# Altium schematic symbol library Q's常用控制芯片.SchLib: 3 symbols
Pins are listed as number, name and electrical type; pins without a type are passive.

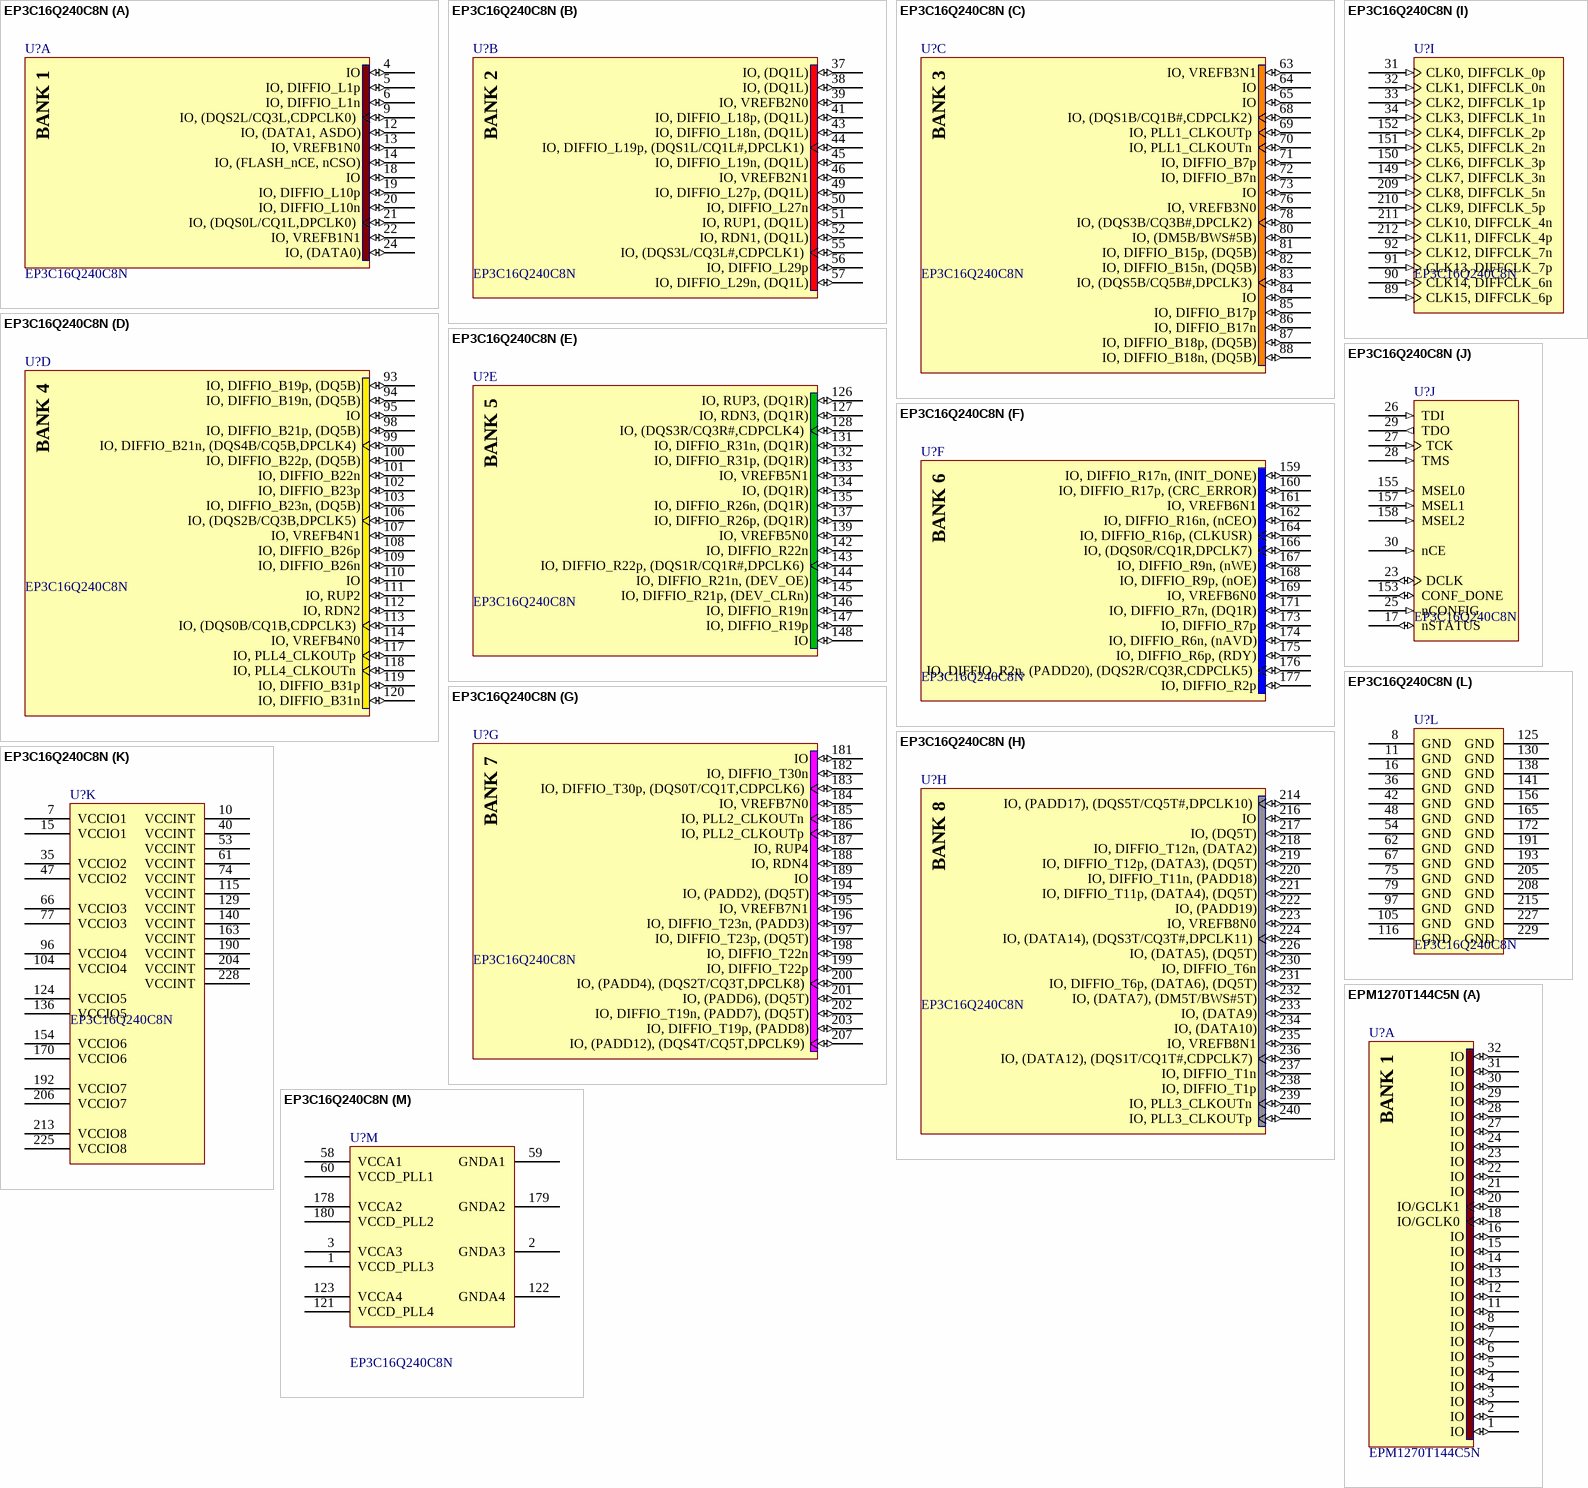
[diagram p0: symbols EP3C16Q240C8N to EPM1270T144C5N]

## EP3C16Q240C8N
designator U?
Cyclone III Family FPGA, 160 I/O Pins, 4 PLLs, 240-Pin PQFP, Speed Grade 8, Commercial Grade, Pb-Free; Published: 26-Feb-2007; DatasheetVersion: ver2.0, May-2008; PackageVersion: ver15.4, Dec-2008; PackageReference: PQFP240; Publisher: Altium Limited; PackageDescription: 240-Pin Plastic Quad Flat Pack (PQFP240) - Wire Bond; Supplier 1: Digi-Key; Supplier Part Number 1: 544-2458-ND; Supplier 2: Farnell; Supplier Part Number 2: 1549365; Code_JEDEC: MS-029-GA; ComponentLink1Description: Manufacturer Link; ComponentLink1URL: http://www.altera.com/; ComponentLink2Description: Handbook (7.86MB); ComponentLink2URL: http://www.altera.com/literature/hb/cyc3/cyclone3_handbook.pdf; ComponentLink3Description: Packaging Specification; ComponentLink3URL: http://www.altera.com/literature/ds/dspkg.pdf
footprint SQFP50P3460X3460-240L (Shrink QFP, 240-Leads, Body 32x32mm, Pitch 0.5mm, IPC High Density)
3D model EP3C16-PQFP240 (240-Pin Plastic Quad Flat Pack (PQFP240) - Wire Bond)
signal-integrity model EP3C16_Q240 (Cyclone III)
part A pins: 4 IO (io), 5 IO, DIFFIO_L1p (io), 6 IO, DIFFIO_L1n (io), 9 IO, (DQS2L/CQ3L,CDPCLK0) (io), 12 IO, (DATA1, ASDO) (io), 13 IO, VREFB1N0 (io), 14 IO, (FLASH_nCE, nCSO) (io), 18 IO (io), 19 IO, DIFFIO_L10p (io), 20 IO, DIFFIO_L10n (io), 21 IO, (DQS0L/CQ1L,DPCLK0) (io), 22 IO, VREFB1N1 (io), 24 IO, (DATA0) (io)
part B pins: 37 IO, (DQ1L) (io), 38 IO, (DQ1L) (io), 39 IO, VREFB2N0 (io), 41 IO, DIFFIO_L18p, (DQ1L) (io), 43 IO, DIFFIO_L18n, (DQ1L) (io), 44 IO, DIFFIO_L19p, (DQS1L/CQ1L#,DPCLK1) (io), 45 IO, DIFFIO_L19n, (DQ1L) (io), 46 IO, VREFB2N1 (io), 49 IO, DIFFIO_L27p, (DQ1L) (io), 50 IO, DIFFIO_L27n (io), 51 IO, RUP1, (DQ1L) (io), 52 IO, RDN1, (DQ1L) (io), 55 IO, (DQS3L/CQ3L#,CDPCLK1) (io), 56 IO, DIFFIO_L29p (io), 57 IO, DIFFIO_L29n, (DQ1L) (io)
part C pins: 63 IO, VREFB3N1 (io), 64 IO (io), 65 IO (io), 68 IO, (DQS1B/CQ1B#,CDPCLK2) (io), 69 IO, PLL1_CLKOUTp (io), 70 IO, PLL1_CLKOUTn (io), 71 IO, DIFFIO_B7p (io), 72 IO, DIFFIO_B7n (io), 73 IO (io), 76 IO, VREFB3N0 (io), 78 IO, (DQS3B/CQ3B#,DPCLK2) (io), 80 IO, (DM5B/BWS#5B) (io), 81 IO, DIFFIO_B15p, (DQ5B) (io), 82 IO, DIFFIO_B15n, (DQ5B) (io), 83 IO, (DQS5B/CQ5B#,DPCLK3) (io), 84 IO (io), 85 IO, DIFFIO_B17p (io), 86 IO, DIFFIO_B17n (io), 87 IO, DIFFIO_B18p, (DQ5B) (io), 88 IO, DIFFIO_B18n, (DQ5B) (io)
part D pins: 93 IO, DIFFIO_B19p, (DQ5B) (io), 94 IO, DIFFIO_B19n, (DQ5B) (io), 95 IO (io), 98 IO, DIFFIO_B21p, (DQ5B) (io), 99 IO, DIFFIO_B21n, (DQS4B/CQ5B,DPCLK4) (io), 100 IO, DIFFIO_B22p, (DQ5B) (io), 101 IO, DIFFIO_B22n (io), 102 IO, DIFFIO_B23p (io), 103 IO, DIFFIO_B23n, (DQ5B) (io), 106 IO, (DQS2B/CQ3B,DPCLK5) (io), 107 IO, VREFB4N1 (io), 108 IO, DIFFIO_B26p (io), 109 IO, DIFFIO_B26n (io), 110 IO (io), 111 IO, RUP2 (io), 112 IO, RDN2 (io), 113 IO, (DQS0B/CQ1B,CDPCLK3) (io), 114 IO, VREFB4N0 (io), 117 IO, PLL4_CLKOUTp (io), 118 IO, PLL4_CLKOUTn (io), 119 IO, DIFFIO_B31p (io), 120 IO, DIFFIO_B31n (io)
part E pins: 126 IO, RUP3, (DQ1R) (io), 127 IO, RDN3, (DQ1R) (io), 128 IO, (DQS3R/CQ3R#,CDPCLK4) (io), 131 IO, DIFFIO_R31n, (DQ1R) (io), 132 IO, DIFFIO_R31p, (DQ1R) (io), 133 IO, VREFB5N1 (io), 134 IO, (DQ1R) (io), 135 IO, DIFFIO_R26n, (DQ1R) (io), 137 IO, DIFFIO_R26p, (DQ1R) (io), 139 IO, VREFB5N0 (io), 142 IO, DIFFIO_R22n (io), 143 IO, DIFFIO_R22p, (DQS1R/CQ1R#,DPCLK6) (io), 144 IO, DIFFIO_R21n, (DEV_OE) (io), 145 IO, DIFFIO_R21p, (DEV_CLRn) (io), 146 IO, DIFFIO_R19n (io), 147 IO, DIFFIO_R19p (io), 148 IO (io)
part F pins: 159 IO, DIFFIO_R17n, (INIT_DONE) (io), 160 IO, DIFFIO_R17p, (CRC_ERROR) (io), 161 IO, VREFB6N1 (io), 162 IO, DIFFIO_R16n, (nCEO) (io), 164 IO, DIFFIO_R16p, (CLKUSR) (io), 166 IO, (DQS0R/CQ1R,DPCLK7) (io), 167 IO, DIFFIO_R9n, (nWE) (io), 168 IO, DIFFIO_R9p, (nOE) (io), 169 IO, VREFB6N0 (io), 171 IO, DIFFIO_R7n, (DQ1R) (io), 173 IO, DIFFIO_R7p (io), 174 IO, DIFFIO_R6n, (nAVD) (io), 175 IO, DIFFIO_R6p, (RDY) (io), 176 IO, DIFFIO_R2n, (PADD20), (DQS2R/CQ3R,CDPCLK5) (io), 177 IO, DIFFIO_R2p (io)
part G pins: 181 IO (io), 182 IO, DIFFIO_T30n (io), 183 IO, DIFFIO_T30p, (DQS0T/CQ1T,CDPCLK6) (io), 184 IO, VREFB7N0 (io), 185 IO, PLL2_CLKOUTn (io), 186 IO, PLL2_CLKOUTp (io), 187 IO, RUP4 (io), 188 IO, RDN4 (io), 189 IO (io), 194 IO, (PADD2), (DQ5T) (io), 195 IO, VREFB7N1 (io), 196 IO, DIFFIO_T23n, (PADD3) (io), 197 IO, DIFFIO_T23p, (DQ5T) (io), 198 IO, DIFFIO_T22n (io), 199 IO, DIFFIO_T22p (io), 200 IO, (PADD4), (DQS2T/CQ3T,DPCLK8) (io), 201 IO, (PADD6), (DQ5T) (io), 202 IO, DIFFIO_T19n, (PADD7), (DQ5T) (io), 203 IO, DIFFIO_T19p, (PADD8) (io), 207 IO, (PADD12), (DQS4T/CQ5T,DPCLK9) (io)
part H pins: 214 IO, (PADD17), (DQS5T/CQ5T#,DPCLK10) (io), 216 IO (io), 217 IO, (DQ5T) (io), 218 IO, DIFFIO_T12n, (DATA2) (io), 219 IO, DIFFIO_T12p, (DATA3), (DQ5T) (io), 220 IO, DIFFIO_T11n, (PADD18) (io), 221 IO, DIFFIO_T11p, (DATA4), (DQ5T) (io), 222 IO, (PADD19) (io), 223 IO, VREFB8N0 (io), 224 IO, (DATA14), (DQS3T/CQ3T#,DPCLK11) (io), 226 IO, (DATA5), (DQ5T) (io), 230 IO, DIFFIO_T6n (io), 231 IO, DIFFIO_T6p, (DATA6), (DQ5T) (io), 232 IO, (DATA7), (DM5T/BWS#5T) (io), 233 IO, (DATA9) (io), 234 IO, (DATA10) (io), 235 IO, VREFB8N1 (io), 236 IO, (DATA12), (DQS1T/CQ1T#,CDPCLK7) (io), 237 IO, DIFFIO_T1n (io), 238 IO, DIFFIO_T1p (io), 239 IO, PLL3_CLKOUTn (io), 240 IO, PLL3_CLKOUTp (io)
part I pins: 31 CLK0, DIFFCLK_0p (in), 32 CLK1, DIFFCLK_0n (in), 33 CLK2, DIFFCLK_1p (in), 34 CLK3, DIFFCLK_1n (in), 89 CLK15, DIFFCLK_6p (in), 90 CLK14, DIFFCLK_6n (in), 91 CLK13, DIFFCLK_7p (in), 92 CLK12, DIFFCLK_7n (in), 149 CLK7, DIFFCLK_3n (in), 150 CLK6, DIFFCLK_3p (in), 151 CLK5, DIFFCLK_2n (in), 152 CLK4, DIFFCLK_2p (in), 209 CLK8, DIFFCLK_5n (in), 210 CLK9, DIFFCLK_5p (in), 211 CLK10, DIFFCLK_4n (in), 212 CLK11, DIFFCLK_4p (in)
part J pins: 17 nSTATUS (io), 23 DCLK (io), 25 nCONFIG (in), 26 TDI (in), 27 TCK (in), 28 TMS (in), 29 TDO (out), 30 nCE (in), 153 CONF_DONE (io), 155 MSEL0 (in), 157 MSEL1 (in), 158 MSEL2 (in)
part K pins: 7 VCCIO1 (power), 10 VCCINT (power), 15 VCCIO1 (power), 35 VCCIO2 (power), 40 VCCINT (power), 47 VCCIO2 (power), 53 VCCINT (power), 61 VCCINT (power), 66 VCCIO3 (power), 74 VCCINT (power), 77 VCCIO3 (power), 96 VCCIO4 (power), 104 VCCIO4 (power), 115 VCCINT (power), 124 VCCIO5 (power), 129 VCCINT (power), 136 VCCIO5 (power), 140 VCCINT (power), 154 VCCIO6 (power), 163 VCCINT (power), 170 VCCIO6 (power), 190 VCCINT (power), 192 VCCIO7 (power), 204 VCCINT (power), 206 VCCIO7 (power), 213 VCCIO8 (power), 225 VCCIO8 (power), 228 VCCINT (power)
part L pins: 8 GND (power), 11 GND (power), 16 GND (power), 36 GND (power), 42 GND (power), 48 GND (power), 54 GND (power), 62 GND (power), 67 GND (power), 75 GND (power), 79 GND (power), 97 GND (power), 105 GND (power), 116 GND (power), 125 GND (power), 130 GND (power), 138 GND (power), 141 GND (power), 156 GND (power), 165 GND (power), 172 GND (power), 191 GND (power), 193 GND (power), 205 GND (power), 208 GND (power), 215 GND (power), 227 GND (power), 229 GND (power)
part M pins: 1 VCCD_PLL3 (power), 2 GNDA3 (power), 3 VCCA3 (power), 58 VCCA1 (power), 59 GNDA1 (power), 60 VCCD_PLL1 (power), 121 VCCD_PLL4 (power), 122 GNDA4 (power), 123 VCCA4 (power), 178 VCCA2 (power), 179 GNDA2 (power), 180 VCCD_PLL2 (power)
part A text: BANK 1
part B text: BANK 2
part C text: BANK 3
part D text: BANK 4
part E text: BANK 5
part F text: BANK 6
part G text: BANK 7
part H text: BANK 8

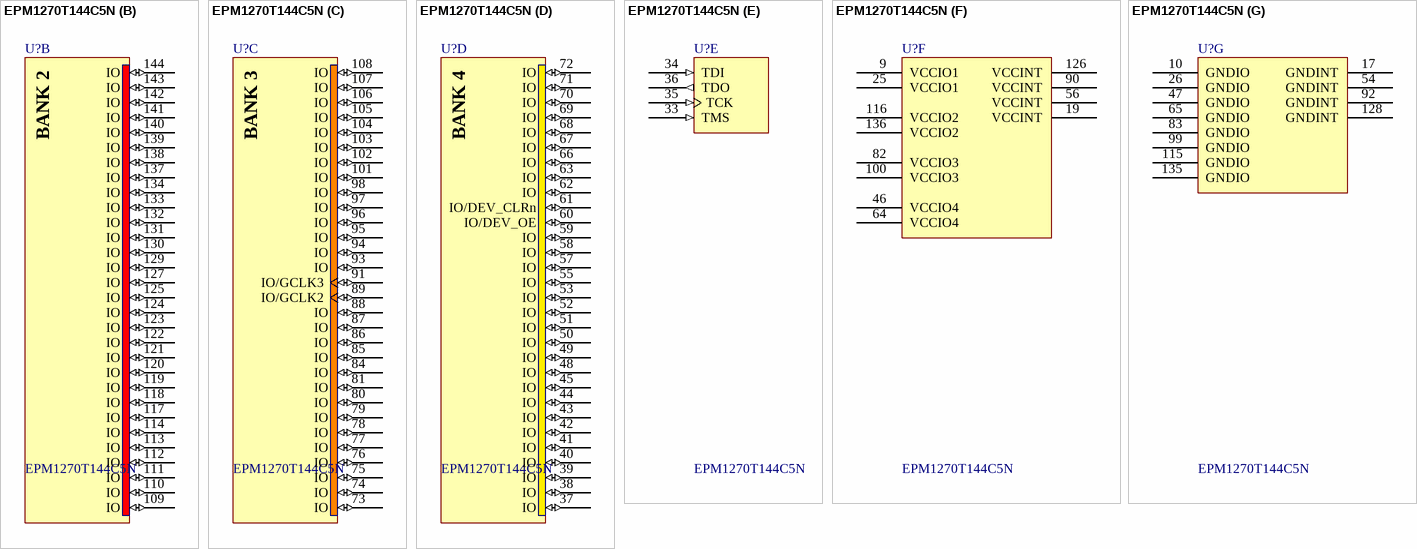
[diagram p1: symbol EPM1270T144C5N]

## EPM1270T144C5N
designator U?
MAX II 3.3/2.5V CPLD, 116 IOs, 1,270 Logic Elements, 144-Pin Plastic TQFP, Commercial Temperature, Speed Grade 5, Pb-Free; Note: Each set of VCCIO pins can be connected to 3.3V, 2.5V, 1.8V, or 1.5V.; Note: All VCCINT pins must be connected to either 3.3V or 2.5V (but not a combination of both).; Published: 4-Mar-2005; LatestRevisionDate: 13-Apr-2006; LatestRevisionNote: IPC-7351 Footprint Added.; DatasheetVersion: ver1.8, Jul-2006; PackageVersion: ver14.3, Jul-2006; PackageReference: TQFP144; Publisher: Altium Limited; PackageDescription: 144-Pin Plastic Thin Quad Flat Pack (TQFP144); Code_JEDEC: MS-026-BFB; ComponentLink1Description: Manufacturer Link; ComponentLink1URL: http://www.altera.com/products/devices/cpld/max2/mx2-index.jsp; ComponentLink2Description: Handbook; ComponentLink2URL: http://www.altera.com/literature/hb/max2/max2_mii5v1.pdf; ComponentLink3Description: Packaging Specification; ComponentLink3URL: http://www.altera.com/literature/ds/dspkg.pdf
3D model EPM1270-TQFP144 (144-Pin Plastic Thin Quad Flat Pack (TQFP144))
footprint TSQFP50P2200X2200-144L (Thin QFP, 144-Leads, Body 20x20mm, Pitch 0.5mm, IPC High Density)
part A pins: 1 IO (io), 2 IO (io), 3 IO (io), 4 IO (io), 5 IO (io), 6 IO (io), 7 IO (io), 8 IO (io), 11 IO (io), 12 IO (io), 13 IO (io), 14 IO (io), 15 IO (io), 16 IO (io), 18 IO/GCLK0 (io), 20 IO/GCLK1 (io), 21 IO (io), 22 IO (io), 23 IO (io), 24 IO (io), 27 IO (io), 28 IO (io), 29 IO (io), 30 IO (io), 31 IO (io), 32 IO (io)
part B pins: 109 IO (io), 110 IO (io), 111 IO (io), 112 IO (io), 113 IO (io), 114 IO (io), 117 IO (io), 118 IO (io), 119 IO (io), 120 IO (io), 121 IO (io), 122 IO (io), 123 IO (io), 124 IO (io), 125 IO (io), 127 IO (io), 129 IO (io), 130 IO (io), 131 IO (io), 132 IO (io), 133 IO (io), 134 IO (io), 137 IO (io), 138 IO (io), 139 IO (io), 140 IO (io), 141 IO (io), 142 IO (io), 143 IO (io), 144 IO (io)
part C pins: 73 IO (io), 74 IO (io), 75 IO (io), 76 IO (io), 77 IO (io), 78 IO (io), 79 IO (io), 80 IO (io), 81 IO (io), 84 IO (io), 85 IO (io), 86 IO (io), 87 IO (io), 88 IO (io), 89 IO/GCLK2 (io), 91 IO/GCLK3 (io), 93 IO (io), 94 IO (io), 95 IO (io), 96 IO (io), 97 IO (io), 98 IO (io), 101 IO (io), 102 IO (io), 103 IO (io), 104 IO (io), 105 IO (io), 106 IO (io), 107 IO (io), 108 IO (io)
part D pins: 37 IO (io), 38 IO (io), 39 IO (io), 40 IO (io), 41 IO (io), 42 IO (io), 43 IO (io), 44 IO (io), 45 IO (io), 48 IO (io), 49 IO (io), 50 IO (io), 51 IO (io), 52 IO (io), 53 IO (io), 55 IO (io), 57 IO (io), 58 IO (io), 59 IO (io), 60 IO/DEV_OE (io), 61 IO/DEV_CLRn (io), 62 IO (io), 63 IO (io), 66 IO (io), 67 IO (io), 68 IO (io), 69 IO (io), 70 IO (io), 71 IO (io), 72 IO (io)
part E pins: 33 TMS (in), 34 TDI (in), 35 TCK (in), 36 TDO (out)
part F pins: 9 VCCIO1 (power), 19 VCCINT (power), 25 VCCIO1 (power), 46 VCCIO4 (power), 56 VCCINT (power), 64 VCCIO4 (power), 82 VCCIO3 (power), 90 VCCINT (power), 100 VCCIO3 (power), 116 VCCIO2 (power), 126 VCCINT (power), 136 VCCIO2 (power)
part G pins: 10 GNDIO (power), 17 GNDINT (power), 26 GNDIO (power), 47 GNDIO (power), 54 GNDINT (power), 65 GNDIO (power), 83 GNDIO (power), 92 GNDINT (power), 99 GNDIO (power), 115 GNDIO (power), 128 GNDINT (power), 135 GNDIO (power)
part A text: BANK 1
part B text: BANK 2
part C text: BANK 3
part D text: BANK 4

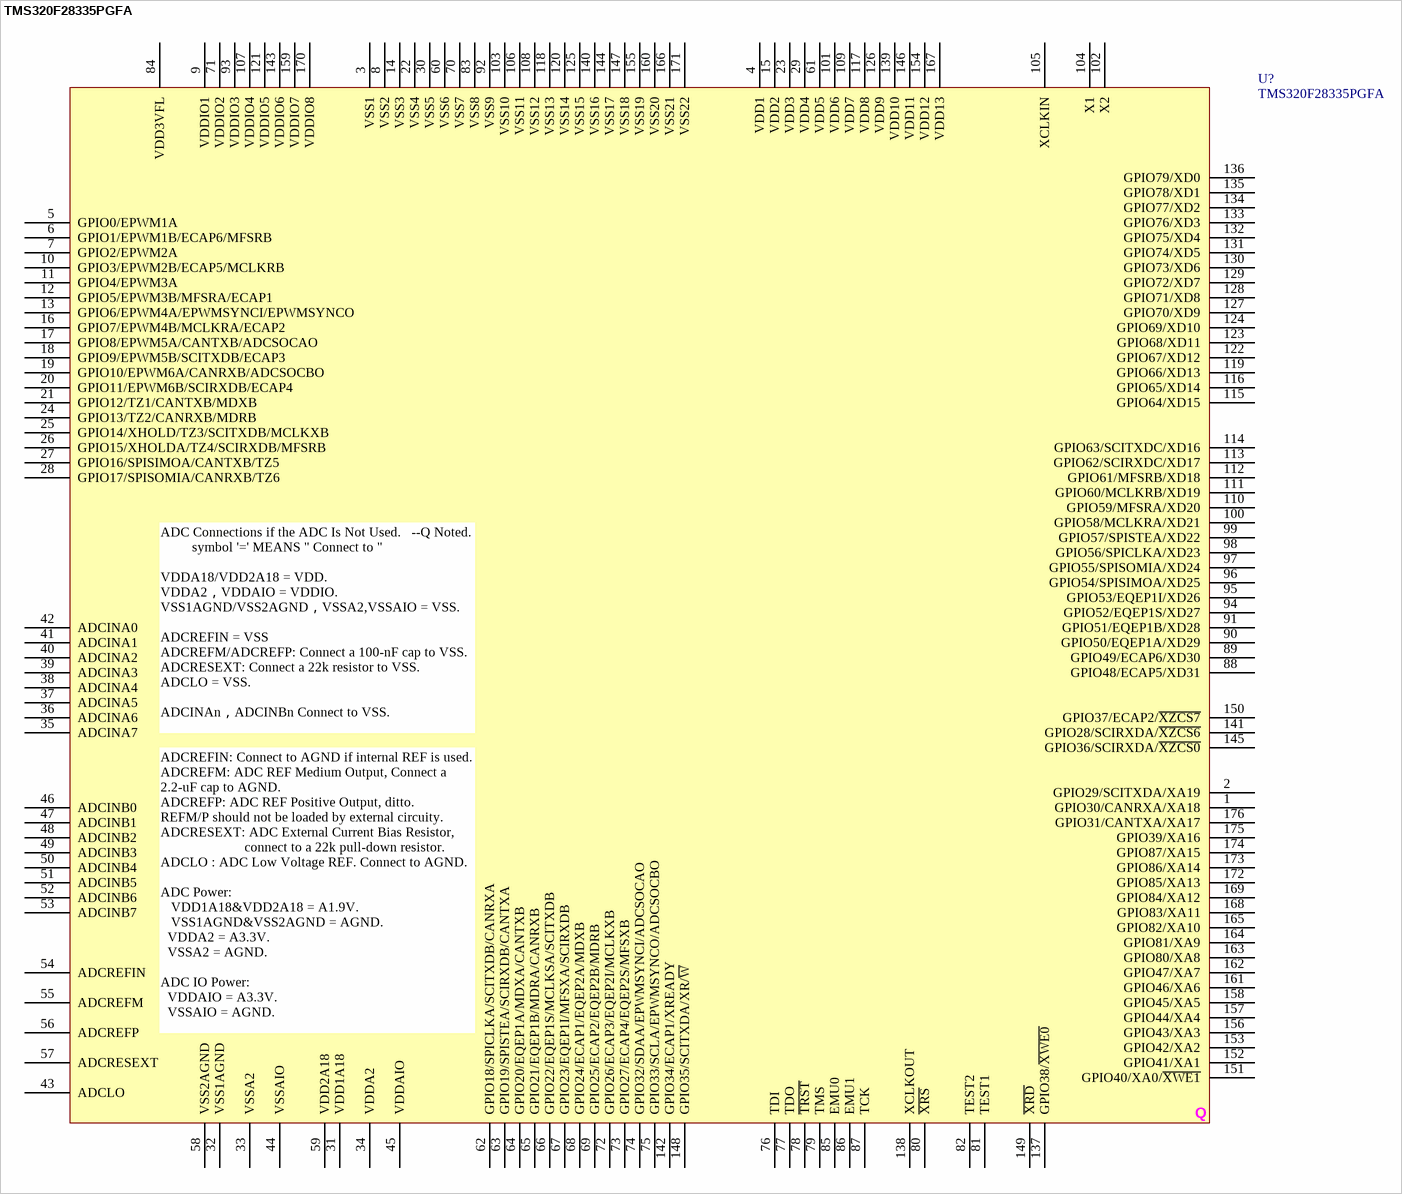
[diagram p2: symbol TMS320F28335PGFA]

## TMS320F28335PGFA
designator U?
DSP芯片
footprint SQFP50P2600X2600-176L (Shrink QFP, 176-Leads, Body 24x24mm, Pitch 0.5mm, IPC High Density)
pins: 1 GPIO30/CANRXA/XA18, 2 GPIO29/SCITXDA/XA19, 3 VSS1, 4 VDD1, 5 GPIO0/EPWM1A, 6 GPIO1/EPWM1B/ECAP6/MFSRB, 7 GPIO2/EPWM2A, 8 VSS2, 9 VDDIO1, 10 GPIO3/EPWM2B/ECAP5/MCLKRB, 11 GPIO4/EPWM3A, 12 GPIO5/EPWM3B/MFSRA/ECAP1, 13 GPIO6/EPWM4A/EPWMSYNCI/EPWMSYNCO, 14 VSS3, 15 VDD2, 16 GPIO7/EPWM4B/MCLKRA/ECAP2, 17 GPIO8/EPWM5A/CANTXB/ADCSOCAO, 18 GPIO9/EPWM5B/SCITXDB/ECAP3, 19 GPIO10/EPWM6A/CANRXB/ADCSOCBO, 20 GPIO11/EPWM6B/SCIRXDB/ECAP4, 21 GPIO12/TZ1/CANTXB/MDXB, 22 VSS4, 23 VDD3, 24 GPIO13/TZ2/CANRXB/MDRB, 25 GPIO14/XHOLD/TZ3/SCITXDB/MCLKXB, 26 GPIO15/XHOLDA/TZ4/SCIRXDB/MFSRB, 27 GPIO16/SPISIMOA/CANTXB/TZ5, 28 GPIO17/SPISOMIA/CANRXB/TZ6, 29 VDD4, 30 VSS5, 31 VDD1A18, 32 VSS1AGND, 33 VSSA2, 34 VDDA2, 35 ADCINA7, 36 ADCINA6, 37 ADCINA5, 38 ADCINA4, 39 ADCINA3, 40 ADCINA2, 41 ADCINA1, 42 ADCINA0, 43 ADCLO, 44 VSSAIO, 45 VDDAIO, 46 ADCINB0, 47 ADCINB1, 48 ADCINB2, 49 ADCINB3, 50 ADCINB4, 51 ADCINB5, 52 ADCINB6, 53 ADCINB7, 54 ADCREFIN, 55 ADCREFM, 56 ADCREFP, 57 ADCRESEXT, 58 VSS2AGND, 59 VDD2A18, 60 VSS6, 61 VDD5, 62 GPIO18/SPICLKA/SCITXDB/CANRXA, 63 GPIO19/SPISTEA/SCIRXDB/CANTXA, 64 GPIO20/EQEP1A/MDXA/CANTXB, 65 GPIO21/EQEP1B/MDRA/CANRXB, 66 GPIO22/EQEP1S/MCLKSA/SCITXDB, 67 GPIO23/EQEP1I/MFSXA/SCIRXDB, 68 GPIO24/ECAP1/EQEP2A/MDXB, 69 GPIO25/ECAP2/EQEP2B/MDRB, 70 VSS7, 71 VDDIO2, 72 GPIO26/ECAP3/EQEP2I/MCLKXB, 73 GPIO27/ECAP4/EQEP2S/MFSXB, 74 GPIO32/SDAA/EPWMSYNCI/ADCSOCAO, 75 GPIO33/SCLA/EPWMSYNCO/ADCSOCBO, 76 TDI, 77 TDO, 78 ~{TRST}, 79 TMS, 80 ~{XRS}, 81 TEST1, 82 TEST2, 83 VSS8, 84 VDD3VFL, 85 EMU0, 86 EMU1, 87 TCK, 88 GPIO48/ECAP5/XD31, 89 GPIO49/ECAP6/XD30, 90 GPIO50/EQEP1A/XD29, 91 GPIO51/EQEP1B/XD28, 92 VSS9, 93 VDDIO3, 94 GPIO52/EQEP1S/XD27, 95 GPIO53/EQEP1I/XD26, 96 GPIO54/SPISIMOA/XD25, 97 GPIO55/SPISOMIA/XD24, 98 GPIO56/SPICLKA/XD23, 99 GPIO57/SPISTEA/XD22, 100 GPIO58/MCLKRA/XD21, 101 VDD6, 102 X2, 103 VSS10, 104 X1, 105 XCLKIN, 106 VSS11, 107 VDDIO4, 108 VSS12, 109 VDD7, 110 GPIO59/MFSRA/XD20, 111 GPIO60/MCLKRB/XD19, 112 GPIO61/MFSRB/XD18, 113 GPIO62/SCIRXDC/XD17, 114 GPIO63/SCITXDC/XD16, 115 GPIO64/XD15, 116 GPIO65/XD14, 117 VDD8, 118 VSS13, 119 GPIO66/XD13, 120 VSS14, 121 VDDIO5, 122 GPIO67/XD12, 123 GPIO68/XD11, 124 GPIO69/XD10, 125 VSS15, 126 VDD9, 127 GPIO70/XD9, 128 GPIO71/XD8, 129 GPIO72/XD7, 130 GPIO73/XD6, 131 GPIO74/XD5, 132 GPIO75/XD4, 133 GPIO76/XD3, 134 GPIO77/XD2, 135 GPIO78/XD1, 136 GPIO79/XD0, 137 GPIO38/~{XWE0}, 138 XCLKOUT, 139 VDD10, 140 VSS16, 141 GPIO28/SCIRXDA/~{XZCS6}, 142 GPIO34/ECAP1/XREADY, 143 VDDIO6, 144 VSS17, 145 GPIO36/SCIRXDA/~{XZCS0}, 146 VDD11, 147 VSS18, 148 GPIO35/SCITXDA/XR/~{W}, 149 ~{XRD}, 150 GPIO37/ECAP2/~{XZCS7}, 151 GPIO40/XA0/~{XWE1}, 152 GPIO41/XA1, 153 GPIO42/XA2, 154 VDD12, 155 VSS19, 156 GPIO43/XA3, 157 GPIO44/XA4, 158 GPIO45/XA5, 159 VDDIO7, 160 VSS20, 161 GPIO46/XA6, 162 GPIO47/XA7, 163 GPIO80/XA8, 164 GPIO81/XA9, 165 GPIO82/XA10, 166 VSS21, 167 VDD13, 168 GPIO83/XA11, 169 GPIO84/XA12, 170 VDDIO8, 171 VSS22, 172 GPIO85/XA13, 173 GPIO86/XA14, 174 GPIO87/XA15, 175 GPIO39/XA16, 176 GPIO31/CANTXA/XA17
text: ADC Connections if the ADC Is Not Used.   --Q Noted. / symbol '=' MEANS " Connect to " / VDDA18/VDD2A18 = VDD. / VDDA2，VDDAIO = VDDIO. / VSS1AGND/VSS2AGND，VSSA2,VSSAIO = VSS. / ADCREFIN = VSS / ADCREFM/ADCREFP: Connect a 100-nF cap to VSS. / ADCRESEXT: Connect a 22k resistor to VSS. / ADCLO = VSS. / ADCINAn，ADCINBn Connect to VSS.; ADCREFIN: Connect to AGND if internal REF is used. / ADCREFM: ADC REF Medium Output, Connect a 2.2-uF cap to AGND. / ADCREFP: ADC REF Positive Output, ditto. / REFM/P should not be loaded by external circuity. / ADCRESEXT: ADC External Current Bias Resistor, / connect to a 22k pull-down resistor. / ADCLO : ADC Low Voltage REF. Connect to AGND. / ADC Power: / VDD1A18&VDD2A18 = A1.9V. / VSS1AGND&VSS2AGND = AGND. / VDDA2 = A3.3V. / VSSA2 = AGND. / ADC IO Power: / VDDAIO = A3.3V. / VSSAIO = AGND.; Q